# EAGLE library part ESP8266 (library misc_STE)
https://www.pollin.de/p/espressif-esp-wroom-02-esp8266-wi-fi-modul-810696 Doku: https://www.pollin.de/productdownloads/D810696B.PDF
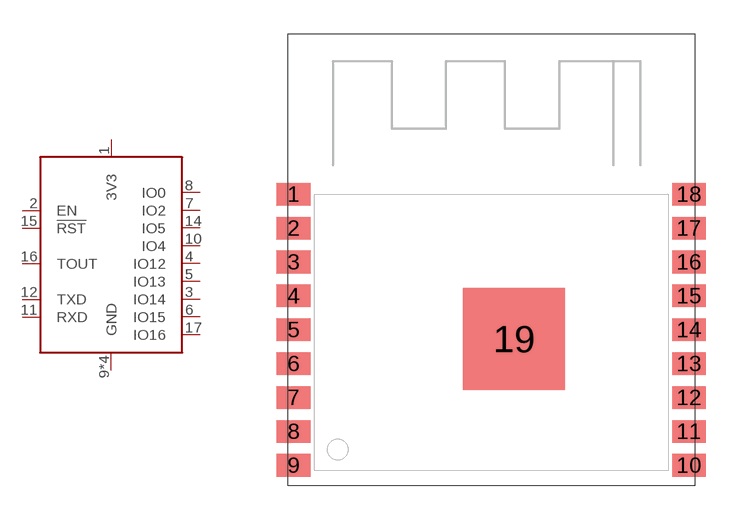
[diagram p0: symbol with the pads of ESP8266-POLLIN; footprint ESP8266-POLLIN]

Designator prefix -

## ESP8266-POLLIN  [ESP8266-POLLIN]
1  3V3  pwr
2  EN
3  IO14
4  IO12
5  IO13
6  IO15
7  IO2
8  IO0
9  GND  pwr
10  IO4
11  RXD
12  TXD
13  GND  pwr
14  IO5
15  !RST
16  TOUT
17  IO16
18  GND  pwr
19  GND  pwr

## Footprint ESP8266-POLLIN (pad centres in mm)
smd 1.5 x 1: 1 -9.55,6.3; 2 -9.55,4.8; 3 -9.55,3.3; 4 -9.55,1.8; 5 -9.55,0.3; 6 -9.55,-1.2; 7 -9.55,-2.7; 8 -9.55,-4.2; 9 -9.55,-5.7; 10 7.95,-5.7; 11 7.95,-4.2; 12 7.95,-2.7; 13 7.95,-1.2; 14 7.95,0.3; 15 7.95,1.8; 16 7.95,3.3; 17 7.95,4.8; 18 7.95,6.3
smd 4.5 x 4.5: 19 0.2,-0.1